# EAGLE library part ADP3303_ (library Chromation)
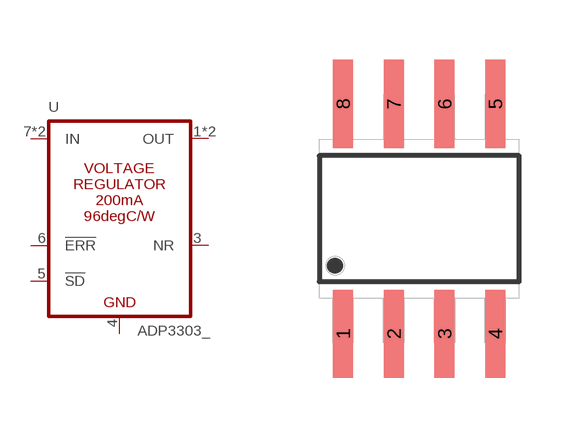
[diagram p11: symbol with the pads of SOIC-8_AD; footprint SOIC-8_AD]

Designator prefix U

## ADP3303_ARZ-3.3  [SOIC-8_AD]
1  OUT
2  OUT
3  NR
4  GND
5  !SD!  in
6  !ERR!  out
7  IN
8  IN

## Footprint SOIC-8_AD (pad centres in mm)
smd 0.5 x 2.2: 1 -1.905,-2.875; 2 -0.635,-2.875; 3 0.635,-2.875; 4 1.905,-2.875; 5 1.905,2.875; 6 0.635,2.875; 7 -0.635,2.875; 8 -1.905,2.875